# Altium footprint library DFN.PcbLib: 7 footprints
Each footprint in its own frame and in the unit in brackets; x right, y up, seen from the top. Pads: shape width x height; smd on the part's side, far side on the other; paste and mask are expansions set on the pad; w line width, h text height; cw(c..) or ccw(c..) is an arc to the next point about the centre after c.
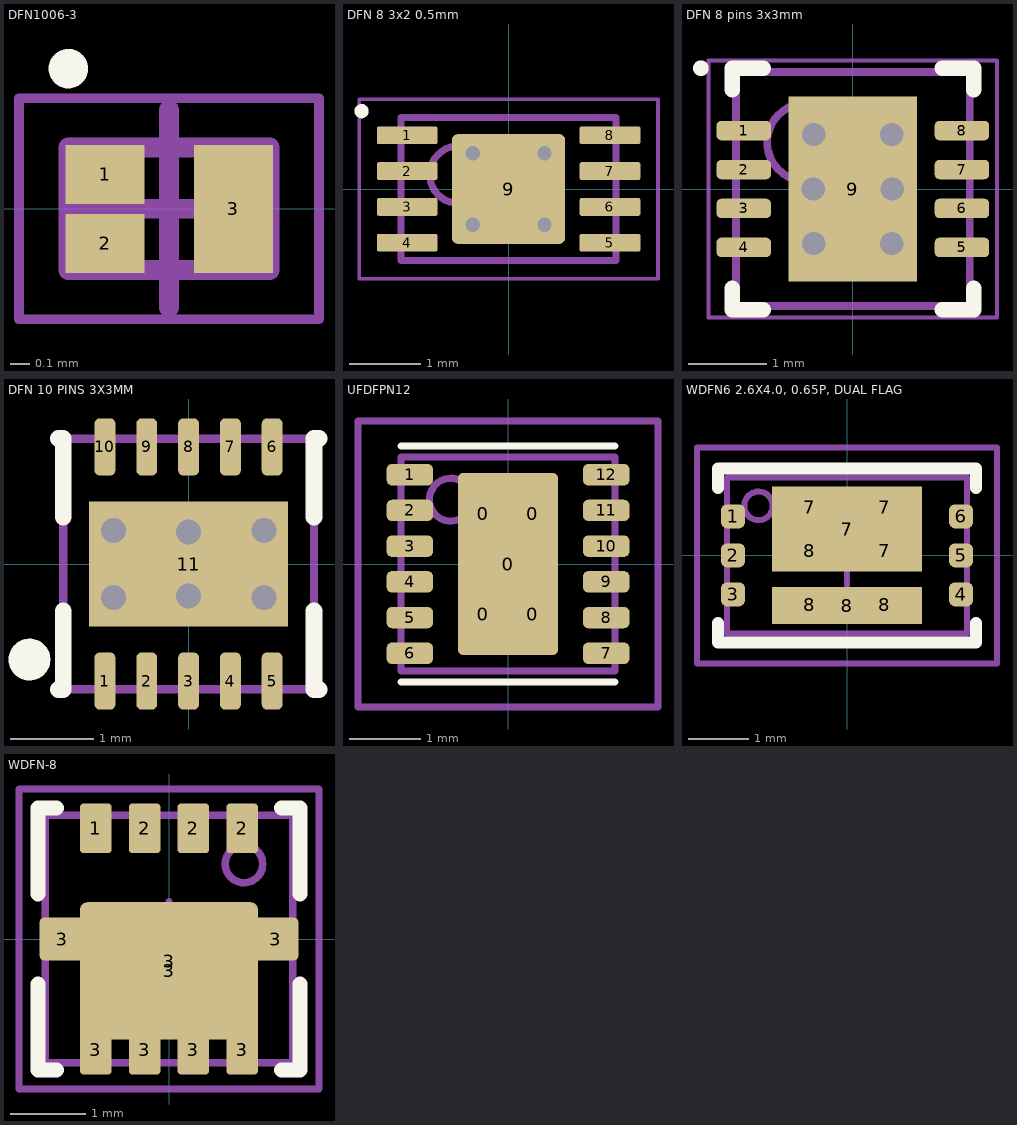
[diagram p0: the footprints below, top view; thin cyan lines are the x and y axes]

## DFN1006-3 [mm] "DFN1006-3"
height 0.5
pads (3):
  rect 0.4x0.3 smd: 1(0.65,0.175) 2(0.65,-0.175)
  rect 0.4x0.65 smd: 3(1.3,0)
Top Overlay:
  circle w0.1: c0.464,0.711 r0.05
Mechanical 13:
  lines w0.1: 0.464,-0.309 1.484,-0.309 1.484,0.311 0.464,0.311 0.464,-0.309
Mechanical 15:
  lines w0.05: 0.214,-0.559 1.734,-0.559 1.734,0.561 0.214,0.561 0.214,-0.559
  lines w0.1: 0.474,0.001 1.474,0.001 ; 0.974,-0.499 0.974,0.501
3D body: height 0.5, standoff 0.03, extent 0.464,-0.309 1.484,0.311

## DFN 8 3x2 0.5mm [mm] "DFN 8 3x2 0.5mm"
height 1
pads (9):
  rrect25% 0.85x0.25 smd: 1(-1.415,0.75) 2(-1.415,0.25) 3(-1.415,-0.25) 4(-1.415,-0.75) 5(1.415,-0.75) 6(1.415,-0.25) 7(1.415,0.25) 8(1.415,0.75)
  rrect10% 1.58x1.53 smd paste-0.79 mask+0: 9(0,0)
via -0.5,0.5 diameter 0.5 hole 0.2
via 0.5,0.5 diameter 0.5 hole 0.2
via -0.5,-0.5 diameter 0.5 hole 0.2
via 0.5,-0.5 diameter 0.5 hole 0.2
Top Overlay:
  circle w0.1: c-2.052,1.087 r0.05
Top Paste:
  region: -0.145,0.65 -0.695,0.65 -0.695,0.15 -0.145,0.15
  rectangle: 0.13,0.15 0.68,0.65
  rectangle: 0.13,-0.65 0.68,-0.15
  region: -0.145,-0.15 -0.695,-0.15 -0.695,-0.65 -0.145,-0.65
Mechanical 13:
  circle w0.1: c-0.7,0.2 r0.4
  lines w0.1: -1.5,-1 -1.5,1 1.5,1 1.5,-1 -1.5,-1
Mechanical 15:
  lines w0.05: -2.085,-1.25 -2.085,1.25 2.085,1.25 2.085,-1.25 -2.085,-1.25
  lines w0.1: -0.5,0 0.5,0 ; 0,-0.5 0,0.5
3D body: height 1, standoff 0, extent -1.5,-1 1.5,1

## DFN 8 pins 3x3mm [mm] "SON, 8-Leads, Body 3x3mm, Pitch 0.5mm, Thermal Pad 2.38x1.65mm"
height 1
pads (9):
  rrect50% 0.7x0.25 smd: 1(-1.4,0.75) 2(-1.4,0.25) 3(-1.4,-0.25) 4(-1.4,-0.75) 5(1.4,-0.75) 6(1.4,-0.25) 7(1.4,0.25) 8(1.4,0.75)
  rect 1.65x2.38 smd: 9(0,0)
via -0.5,0.7 diameter 0.5 hole 0.3
via 0.5,0.7 diameter 0.5 hole 0.3
via -0.5,-0.7 diameter 0.5 hole 0.3
via 0.5,-0.7 diameter 0.5 hole 0.3
via -0.508,0 diameter 0.5 hole 0.3
via 0.508,0 diameter 0.5 hole 0.3
Top Overlay:
  circle w0.1: c-1.95,1.55 r0.05
  lines w0.2: -1.55,-1.275 -1.55,-1.55 -1.15,-1.55 ; -1.55,1.275 -1.55,1.55 -1.15,1.55 ; 1.15,-1.55 1.55,-1.55 1.55,-1.275 ; 1.15,1.55 1.55,1.55 1.55,1.275
Mechanical 13:
  circle w0.1: c-0.6,0.6 r0.5
  lines w0.1: -1.5,-1.5 -1.5,1.5 1.5,1.5 1.5,-1.5 -1.5,-1.5
Mechanical 15:
  lines w0.05: -1.85,-1.65 -1.85,1.65 1.85,1.65 1.85,-1.65 -1.85,-1.65
  lines w0.1: -0.5,0 0.5,0 ; 0,-0.5 0,0.5
3D body: height 0.8, standoff 0, extent -1.51,-1.5 1.51,1.5

## DFN 10 PINS 3X3MM [mm] "DFN 10 PINS 3X3MM"
height 1
pads (11):
  rrect50% 0.25x0.685 smd: 1(-1,-1.4) 2(-0.5,-1.4) 3(0,-1.4) 4(0.5,-1.4) 5(1,-1.4) 6(1,1.4) 7(0.5,1.4) 8(0,1.4) 9(-0.5,1.4) 10(-1,1.4)
  rect 2.38x1.5 smd: 11(0,0)
via 0.9,0.4 diameter 0.5 hole 0.3
via -0.9,0.4 diameter 0.5 hole 0.3
via -0.9,-0.4 diameter 0.5 hole 0.3
via 0.9,-0.4 diameter 0.5 hole 0.3
via 0,0.381 diameter 0.5 hole 0.3
via 0,-0.381 diameter 0.5 hole 0.3
Top Overlay:
  circle w0.25: c-1.903,-1.143 r0.125
  lines w0.2: -1.56,-1.5 -1.5,-1.5 -1.5,-0.56 ; -1.56,1.5 -1.5,1.5 -1.5,0.56 ; 1.5,-0.56 1.5,-1.5 1.56,-1.5 ; 1.5,0.56 1.5,1.5 1.56,1.5
Mechanical 13:
  lines w0.1: -1.5,-1.5 -1.5,1.5 1.5,1.5 1.5,-1.5 -1.5,-1.5
Mechanical 15:
  lines w0.1: -0.5,0 0.5,0 ; 0,-0.5 0,0.5
3D body: height 1.07, standoff 0, extent -1.5,-1.524 1.5,1.476

## UFDFPN12 [mm]
pads (17):
  rrect20% 0.5x1 smd: 0(-0.35,-0.7) 0(-0.35,0.7) 0(0.35,-0.7) 0(0.35,0.7)
  rrect10% 1.4x2.55 smd paste-3: 0(0,0)
  rrect50% 0.65x0.3 smd: 1(-1.375,1.25) 2(-1.375,0.75) 3(-1.375,0.25) 4(-1.375,-0.25) 5(-1.375,-0.75) 6(-1.375,-1.25) 7(1.375,-1.25) 8(1.375,-0.75) 9(1.375,-0.25) 10(1.375,0.25) 11(1.375,0.75) 12(1.375,1.25)
Top Overlay:
  lines w0.1: -1.5,-1.65 1.5,-1.65 ; -1.5,1.65 1.5,1.65
Mechanical 13:
  circle w0.1: c-0.8,0.9 r0.3
  lines w0.1: -1.5,-1.5 -1.5,1.5 1.5,1.5 1.5,-1.5 -1.5,-1.5
Mechanical 15:
  lines w0.1: -0.25,0 0.25,0 ; 0,-0.25 0,0.25 ; -2.1,-2 -2.1,2 2.1,2 2.1,-2 -2.1,-2
3D body: height 0.6, standoff 0, extent -1.5,-1.5 1.5,1.5

## WDFN6 2.6X4.0, 0.65P, DUAL FLAG [mm]
pads (14):
  rrect50% 0.4x0.4 smd: 1(-1.9,0.65) 2(-1.9,0) 3(-1.9,-0.65) 4(1.9,-0.65) 5(1.9,0) 6(1.9,0.65)
  rrect50% 0.85x0.5 smd: 7(-0.625,0.8)
  rect 2.5x1.415 smd paste-2: 7(0,0.437)
  rrect50% 0.85x0.5 on Top Paste mask-2: 7(0.625,0.075) 7(0.625,0.8) 8(-0.625,0.075)
  rrect50% 0.85x0.575 on Top Paste mask-2: 8(-0.625,-0.825) 8(0.625,-0.825)
  rect 2.5x0.615 smd paste-2: 8(0,-0.838)
Top Overlay:
  lines w0.2: -2.15,-1.125 -2.15,-1.45 2.15,-1.45 2.15,-1.125 ; -2.15,1.125 -2.15,1.45 2.15,1.45 2.15,1.125
Mechanical 13:
  circle w0.1: c-1.475,0.825 r0.237
  lines w0.1: -2,-1.3 -2,1.3 2,1.3 2,-1.3 -2,-1.3
Mechanical 15:
  lines w0.1: -0.5,0 0.5,0 ; 0,-0.5 0,0.5 ; -2.5,-1.8 -2.5,1.8 2.5,1.8 2.5,-1.8 -2.5,-1.8
3D body: height 0.65, standoff 0, extent -2,-1.3 2,1.3

## WDFN-8 [mm] "Transistor 3.3x3.3mm"
height 0.8
pads (12):
  rrect20% 0.42x0.66 smd: 1(-0.975,1.475) 2(-0.325,1.475) 2(0.325,1.475) 2(0.975,1.475) 3(-0.975,-1.475) 3(-0.325,-1.475) 3(0.325,-1.475) 3(0.975,-1.475)
  rrect20% 0.6x0.57 smd: 3(-1.425,0) 3(1.425,0)
  rrect10% 2.37x1.83 smd paste-0.4: 3(0,-0.425)
  rrect20% 1.95x1.3 on Top Paste: 3(0,-0.3)
Top Overlay:
  lines w0.2: -1.75,-0.6 -1.75,-1.75 -1.5,-1.75 ; -1.75,0.6 -1.75,1.75 -1.5,1.75 ; 1.5,-1.75 1.75,-1.75 1.75,-0.6 ; 1.5,1.75 1.75,1.75 1.75,0.6
Mechanical 13:
  circle w0.1: c1,1 r0.25
  lines w0.1: -1.65,-1.65 1.65,-1.65 1.65,1.65 -1.65,1.65 -1.65,-1.65
Mechanical 15:
  lines w0.1: -0.5,0 0.5,0 ; 0,-0.5 0,0.5 ; -2,-2 2,-2 2,2 -2,2 -2,-2
3D body: height 0.75, standoff 0, extent -1.65,-1.65 1.65,1.65